# Altium footprint library CT3151SP_0.PcbLib: 1 footprints
Each footprint in its own frame and in the unit in brackets; x right, y up, seen from the top. Pads: shape width x height; smd on the part's side, far side on the other; paste and mask are expansions set on the pad; w line width, h text height; cw(c..) or ccw(c..) is an arc to the next point about the centre after c.
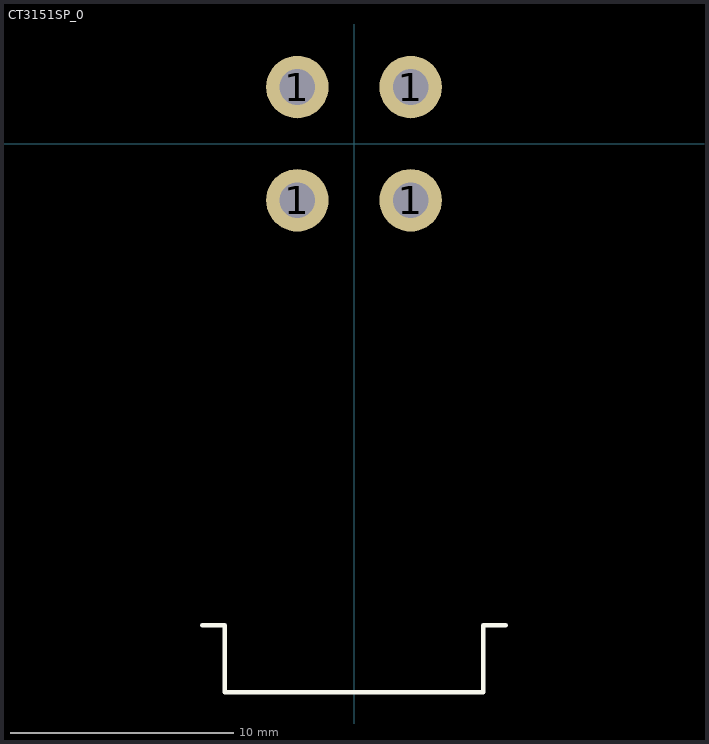
[diagram p0: the footprint, top view; thin cyan lines are the x and y axes]

## CT3151SP_0 [mm] "Cal Test Electronics CT3151SP series Banana Jack"
pads (4):
  round 2.8 hole 1.6: 1(-2.54,-2.54) 1(-2.54,2.54) 1(2.54,-2.54) 1(2.54,2.54)
Top Overlay:
  lines w0.2: -6.8,-21.6 -5.8,-21.6 -5.8,-24.6 5.8,-24.6 5.8,-21.6 6.8,-21.6
3D body "CT3151SP-0.STEP": height 14.4, standoff -3.17, extent -6.75,-24.6 6.75,3.1